# EAGLE library part ATMEGA328-PU (library IC-Microcontrollers)
8-bit Microcontrollers - MCU AVR 32K FLSH 1K EE2K SRAM-20MHz IND Source: Datasheet <https://componentsearchengine.com/Datasheets/1/ATMEGA328-PU.pdf>
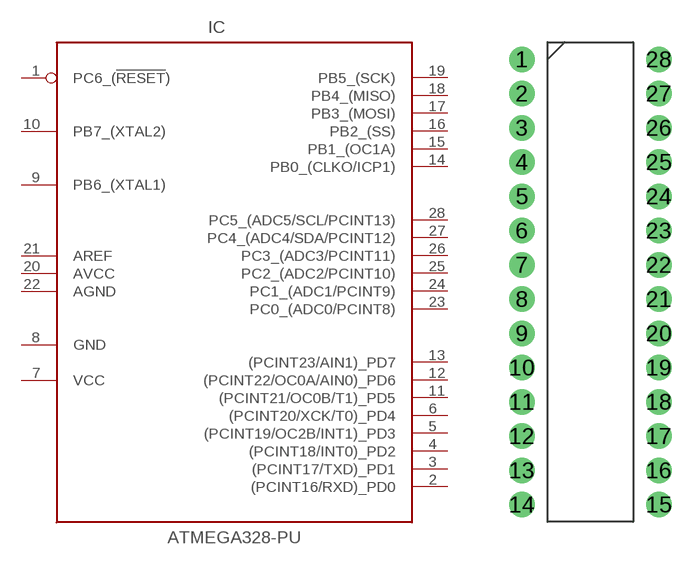
[diagram p6: symbol with the pads of DIP1016W53P254L3468H457Q28N; footprint DIP1016W53P254L3468H457Q28N]

Designator prefix IC

## ATMEGA328-PU (DATASHEET: value; DESCRIPTION: 8-bit Microcontrollers - MCU AVR 32K FLSH 1K EE2K SRAM-20MHz IND; DIGIKEY-PART-NUMBER: value; LINK: value; MANUFACTURER: value; MPN: value; TECHNOLOGY: value; UNIT-PRICE: value)  [DIP1016W53P254L3468H457Q28N]
1  PC6_(!RESET!)
2  (PCINT16/RXD)_PD0  in
3  (PCINT17/TXD)_PD1  out
4  (PCINT18/INT0)_PD2
5  (PCINT19/OC2B/INT1)_PD3
6  (PCINT20/XCK/T0)_PD4
7  VCC  pwr
8  GND  pwr
9  PB6_(XTAL1)
10  PB7_(XTAL2)
11  (PCINT21/OC0B/T1)_PD5
12  (PCINT22/OC0A/AIN0)_PD6
13  (PCINT23/AIN1)_PD7
14  PB0_(CLKO/ICP1)
15  PB1_(OC1A)
16  PB2_(SS)
17  PB3_(MOSI)
18  PB4_(MISO)
19  PB5_(SCK)
20  AVCC  pwr
21  AREF
22  AGND  pwr
23  PC0_(ADC0/PCINT8)
24  PC1_(ADC1/PCINT9)
25  PC2_(ADC2/PCINT10)
26  PC3_(ADC3/PCINT11)
27  PC4_(ADC4/SDA/PCINT12)
28  PC5_(ADC5/SCL/PCINT13)

## Footprint DIP1016W53P254L3468H457Q28N (pad centres in mm)
atmega328pu
drill 1.016 pad 1.88: 1 -5.08,16.51; 2 -5.08,13.97; 3 -5.08,11.43; 4 -5.08,8.89; 5 -5.08,6.35; 6 -5.08,3.81; 7 -5.08,1.27; 8 -5.08,-1.27; 9 -5.08,-3.81; 10 -5.08,-6.35; 11 -5.08,-8.89; 12 -5.08,-11.43; 13 -5.08,-13.97; 14 -5.08,-16.51; 15 5.08,-16.51; 16 5.08,-13.97; 17 5.08,-11.43; 18 5.08,-8.89; 19 5.08,-6.35; 20 5.08,-3.81; 21 5.08,-1.27; 22 5.08,1.27; 23 5.08,3.81; 24 5.08,6.35; 25 5.08,8.89; 26 5.08,11.43; 27 5.08,13.97; 28 5.08,16.51